# EAGLE library part DG403DYZ (library Intersil_By_element14_Batch_1)
Monolithic CMOS Analog Switches
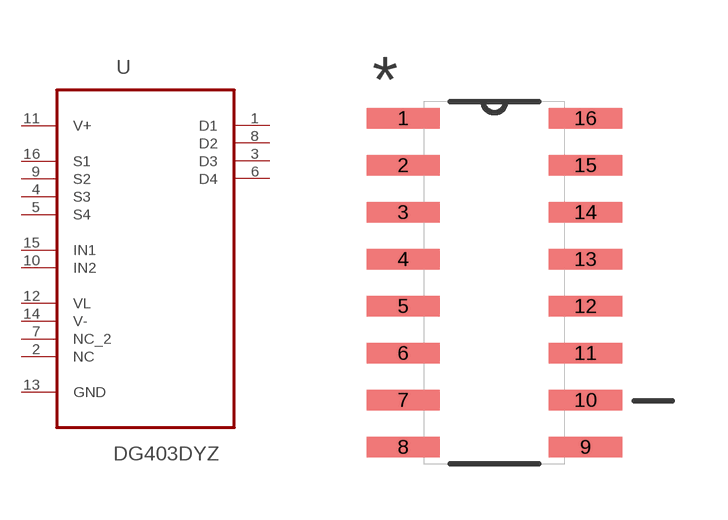
[diagram p27: symbol with the pads of SOIC127P600X175-16N; footprint SOIC127P600X175-16N]

Designator prefix U

## DG403DYZ (MPN: DG403DYZ; OC_FARNELL: 9663800; OC_NEWARK: 61J5522; PACKAGE: SOIC-16; SUPPLIER: INTERSIL)  [SOIC127P600X175-16N]
1  D1  out
2  NC  nc
3  D3  out
4  S3  in
5  S4  in
6  D4  out
7  NC_2  nc
8  D2  out
9  S2  in
10  IN2  in
11  V+  in
12  VL  in
13  GND  pas
14  V-  pwr
15  IN1  in
16  S1  in

## Footprint SOIC127P600X175-16N (pad centres in mm)
smd 1.981 x 0.559: 1 -2.464,4.445; 2 -2.464,3.175; 3 -2.464,1.905; 4 -2.464,0.635; 5 -2.464,-0.635; 6 -2.464,-1.905; 7 -2.464,-3.175; 8 -2.464,-4.445; 9 2.464,-4.445; 10 2.464,-3.175; 11 2.464,-1.905; 12 2.464,-0.635; 13 2.464,0.635; 14 2.464,1.905; 15 2.464,3.175; 16 2.464,4.445